# Altium schematic symbol library PAM8302A.Schlib: 1 symbol
Pins are listed as number, name and electrical type; pins without a type are passive.

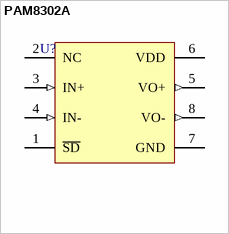
[diagram p0: symbol PAM8302A]

## PAM8302A
designator U?
2.5W FILTERLESS CLASS-D MONO AUDIO AMPLIFIER
pins: 1 ~{SD}, 2 NC, 3 IN+ (in), 4 IN- (in), 5 VO+ (out), 6 VDD (power), 7 GND (power), 8 VO- (out)